# EAGLE library part 613024216921 (library Wurth_Elektronik2)
WR-PHD 2.54mm Dual S. Header Bottom Entry Large, 24 Pins=>Code : Con_BTB_SHD_2.54_2_613024216921 <http://katalog.we-online.de/media/images/eican/Con_BTB_SHD_2.54_2_6130xx216921_pf2.jpg> Details see: http://katalog.we-online.de/en/em/613_0xx_216_921 Created 2014-05-30, Karrer Zheng 2014 (C) Würth Elektronik
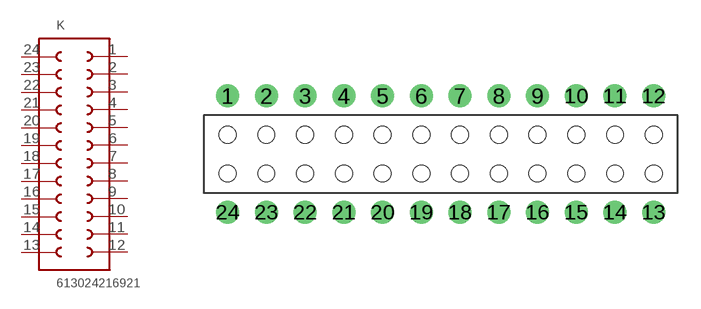
[diagram p176: symbol with the pads of 613024216921; footprint 613024216921]

Designator prefix K

## 613024216921  [613024216921]
1  1  pas
2  2  pas
3  3  pas
4  4  pas
5  5  pas
6  6  pas
7  7  pas
8  8  pas
9  9  pas
10  10  pas
11  11  pas
12  12  pas
13  13  pas
14  14  pas
15  15  pas
16  16  pas
17  17  pas
18  18  pas
19  19  pas
20  20  pas
21  21  pas
22  22  pas
23  23  pas
24  24  pas

## Footprint 613024216921 (pad centres in mm)
WR-PHD 2.54mm Dual S. Header Bottom Entry Large, 24 Pins
drill 1: 1 -13.97,3.81; 2 -11.43,3.81; 3 -8.89,3.81; 4 -6.35,3.81; 5 -3.81,3.81; 6 -1.27,3.81; 7 1.27,3.81; 8 3.81,3.81; 9 6.35,3.81; 10 8.89,3.81; 11 11.43,3.81; 12 13.97,3.81; 13 13.97,-3.81; 14 11.43,-3.81; 15 8.89,-3.81; 16 6.35,-3.81; 17 3.81,-3.81; 18 1.27,-3.81; 19 -1.27,-3.81; 20 -3.81,-3.81; 21 -6.35,-3.81; 22 -8.89,-3.81; 23 -11.43,-3.81; 24 -13.97,-3.81
hole 1.1 at -13.97,1.27
hole 1.1 at -11.43,1.27
hole 1.1 at -8.89,1.27
hole 1.1 at -6.35,1.27
hole 1.1 at -3.81,1.27
hole 1.1 at -1.27,1.27
hole 1.1 at 1.27,1.27
hole 1.1 at 3.81,1.27
hole 1.1 at 6.35,1.27
hole 1.1 at 8.89,1.27
hole 1.1 at 8.89,-1.27
hole 1.1 at 6.35,-1.27
hole 1.1 at 3.81,-1.27
hole 1.1 at 1.27,-1.27
hole 1.1 at -1.27,-1.27
hole 1.1 at -3.81,-1.27
hole 1.1 at -6.35,-1.27
hole 1.1 at -8.89,-1.27
hole 1.1 at -11.43,-1.27
hole 1.1 at -13.97,-1.27
hole 1.1 at 11.43,1.27
hole 1.1 at 11.43,-1.27
hole 1.1 at 13.97,1.27
hole 1.1 at 13.97,-1.27